# EAGLE library part UEL11 (library radiotubes)
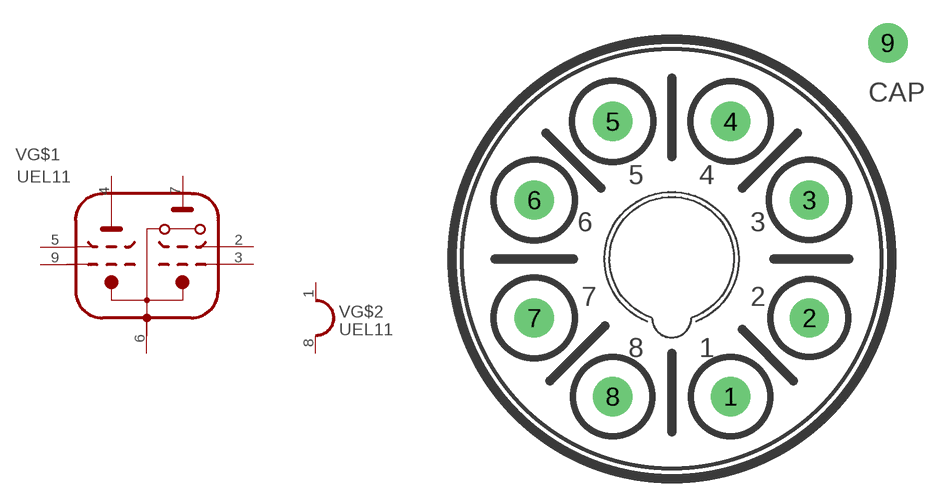
[diagram p105: symbol with the pads of OCTAL-C; footprint OCTAL-C]

Designator prefix V; gates G$1=UEL11 G$2=HEATER_1

## UEL11  [OCTAL-C]
1  G$2:H1  pas
2  G$1:G2-II  pas
3  G$1:G1-II  pas
4  G$1:A-I  pas
5  G$1:G2-I  pas
6  G$1:K,S  pas
7  G$1:A-II  pas
8  G$2:H2  pas
9  G$1:G1-I  pas

## Footprint OCTAL-C (pad centres in mm)
drill 1.27 pad 2.54: 1 3.81,-8.89; 2 8.89,-3.81; 3 8.89,3.81; 4 3.81,8.89; 5 -3.81,8.89; 6 -8.89,3.81; 7 -8.89,-3.81; 8 -3.81,-8.89; 9 13.97,13.97